# Altium footprint library ISO6721B.PcbLib: 1 footprints
Each footprint in its own frame and in the unit in brackets; x right, y up, seen from the top. Pads: shape width x height; smd on the part's side, far side on the other; paste and mask are expansions set on the pad; w line width, h text height; cw(c..) or ccw(c..) is an arc to the next point about the centre after c.
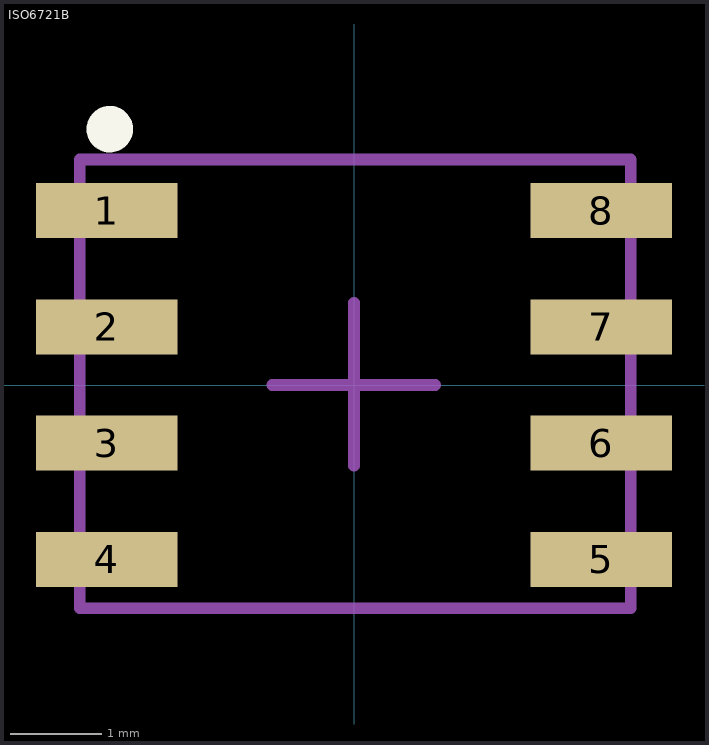
[diagram p0: the footprint, top view; thin cyan lines are the x and y axes]

## ISO6721B [mm] "ISO6721B SOIC"
pads (8):
  rect 1.55x0.6 smd: 1(-2.7,1.905) 2(-2.7,0.635) 3(-2.7,-0.635) 4(-2.7,-1.905) 5(2.7,-1.905) 6(2.7,-0.635) 7(2.7,0.635) 8(2.7,1.905)
Top Overlay:
  circle w0.254: c-2.667,2.794 r0.127
Mechanical 15:
  lines w0.127: -0.891,0 0.887,0 ; 0,-0.88 0,0.898 ; -2.997,-2.438 3.023,-2.438 3.023,2.464 -2.997,2.464 -2.997,-2.438
3D body "D0008B.stp": height 1.63, standoff 0, extent -3.011,-2.451 3.011,2.451